# EAGLE library part ESP-8266-08-16PIN (library regulador)
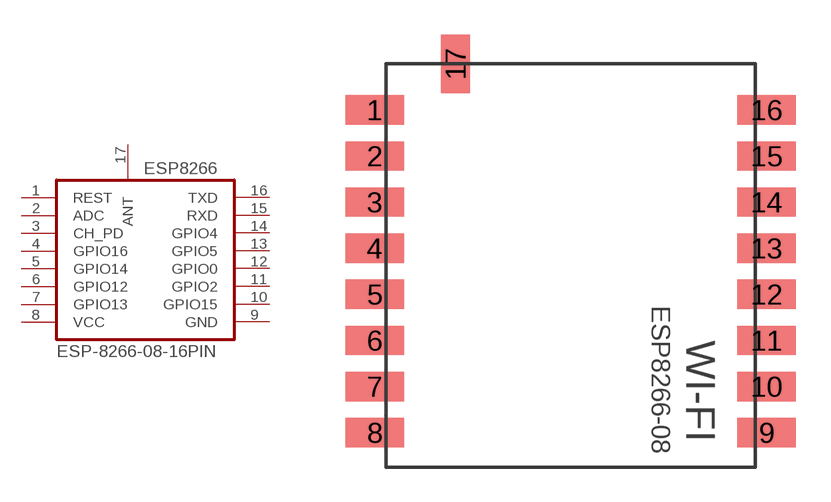
[diagram p0: symbol with the pads of ESP8266-08-16PIN; footprint ESP8266-08-16PIN]

Designator prefix -

## ESP-8266-08-16PIN  [ESP8266-08-16PIN]
1  REST
2  ADC
3  CH_PD
4  GPIO16
5  GPIO14
6  GPIO12
7  GPIO13
8  VCC  pwr
9  GND  sup
10  GPIO15
11  GPIO2
12  GPIO0
13  GPIO5
14  GPIO4
15  RXD
16  TXD
17  ANT

## Footprint ESP8266-08-16PIN (pad centres in mm)
smd 2.54 x 1.27: 1 -8.5,7; 2 -8.5,5; 3 -8.5,3; 4 -8.5,1; 5 -8.5,-1; 6 -8.5,-3; 7 -8.5,-5; 8 -8.5,-7; 9 8.5,-7; 10 8.5,-5; 11 8.5,-3; 12 8.5,-1; 13 8.5,1; 14 8.5,3; 15 8.5,5; 16 8.5,7
smd 1.27 x 2.54: 17 -5,9